# Altium footprint library Chip_kz85.PcbLib: 314 footprints (part 2 of 20)
Each footprint in its own frame and in the unit in brackets; x right, y up, seen from the top. Pads: shape width x height; smd on the part's side, far side on the other; paste and mask are expansions set on the pad; w line width, h text height; cw(c..) or ccw(c..) is an arc to the next point about the centre after c.
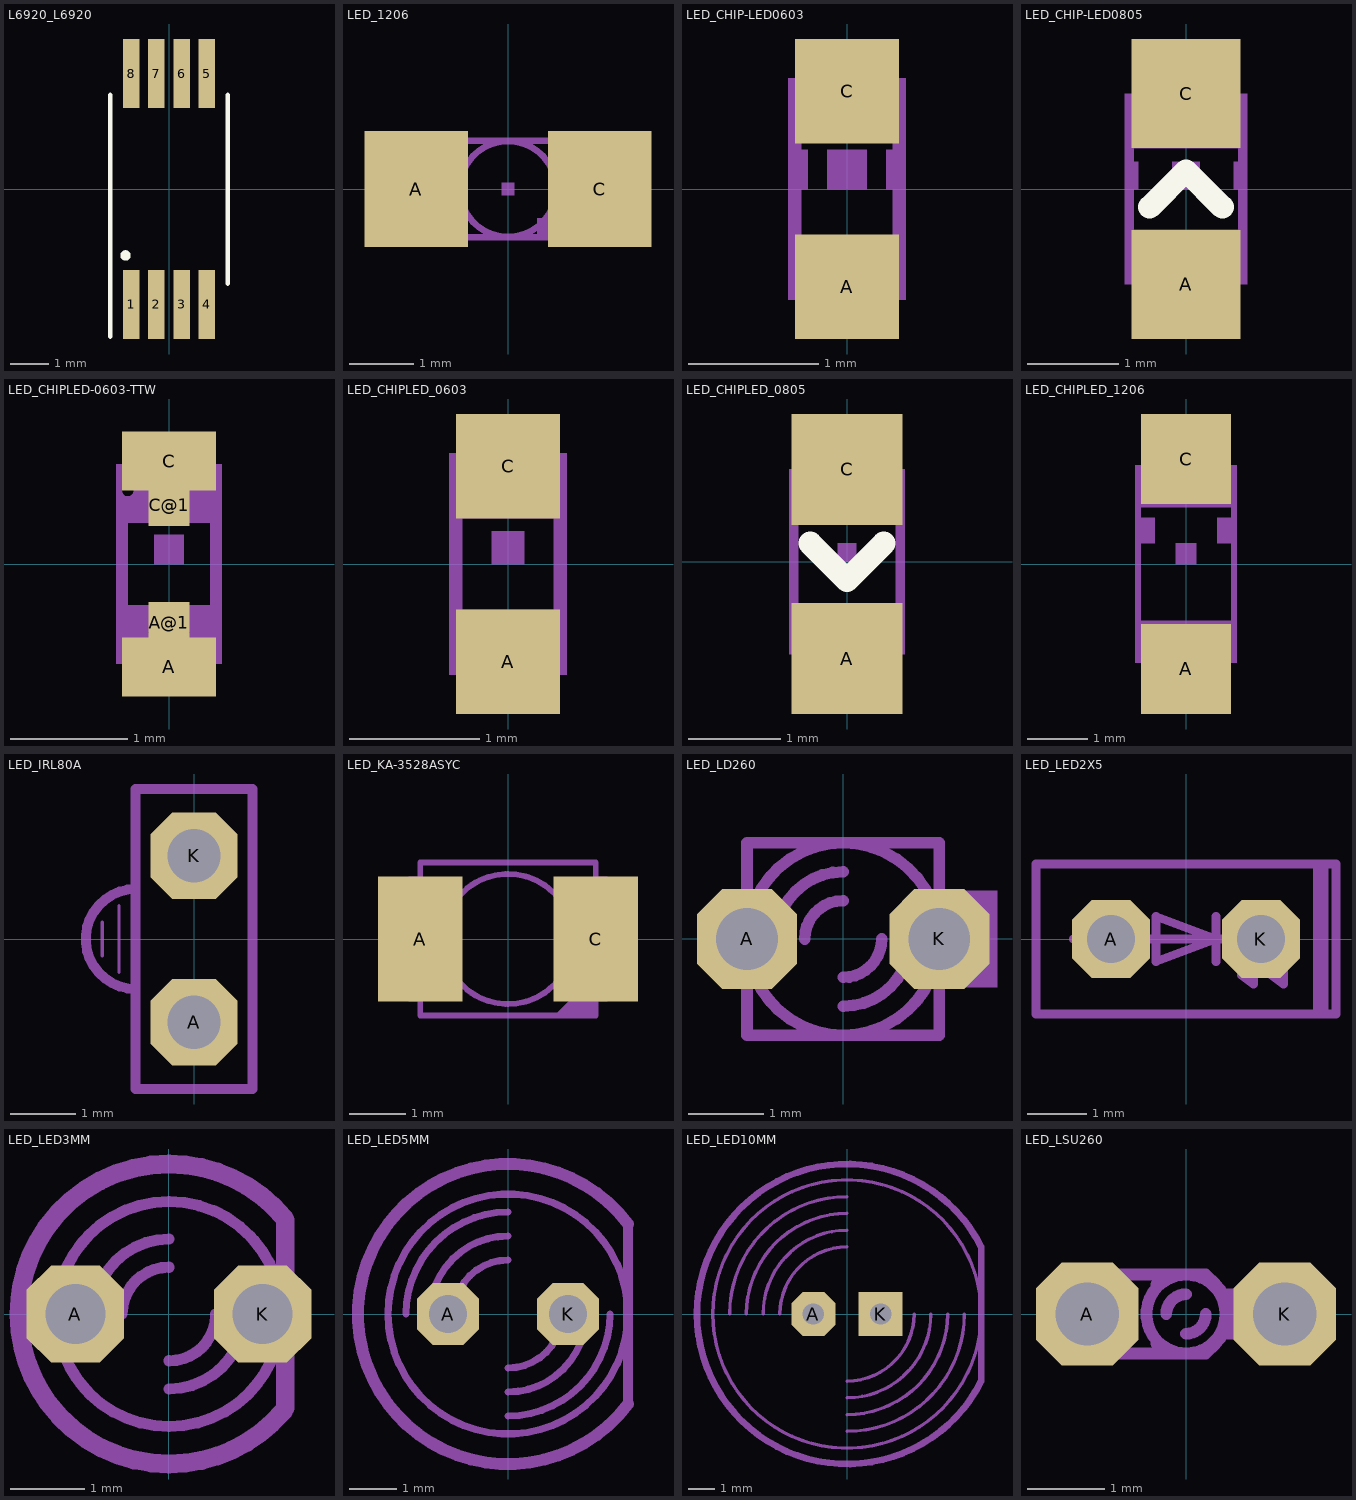
[diagram p1: the footprints below, top view; thin cyan lines are the x and y axes]

## L6920_L6920 [mil]
pads (8):
  rect 16.54x70.08 smd: 1(-38.39,-116.93) 2(-12.8,-116.93) 3(12.8,-116.93) 4(38.39,-116.93) 5(38.39,116.93) 6(12.8,116.93) 7(-12.8,116.93) 8(-38.39,116.93)
Top Overlay:
  circle w5: c-44.09,-67.32 r2.78
  lines w5: -59.55,-149.61 -59.55,95.39 ; 59.55,-95.61 59.55,95.39

## LED_1206 [mil]
pads (2):
  rect 62.99x70.98 smd: A(-55.98,0) C(55.98,0)
Mechanical 3:
  region: -35.43,21.65 -35.43,27.56 -31.5,27.56 -31.5,21.65
  region: -35.43,-27.56 -35.43,19.69 -31.5,19.69 -31.5,-27.56
  region: 31.5,21.65 31.5,27.56 35.43,27.56 35.43,21.65
  region: 31.5,-27.56 31.5,19.69 35.43,19.69 35.43,-27.56
  region: 17.72,-27.56 17.72,-17.72 31.5,-17.72 31.5,-27.56
  lines w4: -21.65,-19.69 cw(c0.01,0) -21.65,19.69 ; 21.65,-19.69 ccw(c-0.01,0) 21.65,19.69 ; -61.02,-29.53 -61.02,29.53 61.02,29.53 61.02,-29.53 -61.02,-29.53
Mechanical 7:
  region: 17.72,-27.56 17.72,-17.72 23.62,-17.72 23.62,-27.56
  region: -3.94,-3.94 -3.94,3.94 3.94,3.94 3.94,-3.94
  lines w4: -21.65,-19.69 ccw(c0,-0.01) 21.65,-19.69 ; -21.65,19.69 cw(c0,0.01) 21.65,19.69

## LED_CHIP-LED0603 [mil]
pads (2):
  rect 31.5x31.5 smd: A(0,-29.53) C(0,29.53)
Mechanical 3:
  region: -17.72,-33.46 -17.72,-17.72 17.72,-17.72 17.72,-33.46
  region: -17.72,17.72 -17.72,33.46 17.72,33.46 17.72,17.72
  lines w4: -15.75,-17.72 -15.75,17.72 ; 15.75,-17.72 15.75,17.72
Mechanical 7:
  region: -5.91,0 -5.91,11.81 5.91,11.81 5.91,0
  region: 11.81,0 11.81,11.81 17.72,11.81 17.72,0
  region: -17.72,0 -17.72,11.81 -11.81,11.81 -11.81,0

## LED_CHIP-LED0805 [mil]
pads (2):
  rect 47.24x47.24 smd: A(0,-41.34) C(0,41.34)
Top Overlay:
  lines w10: -15.75,-7.87 0,7.87 15.75,-7.87
Mechanical 3:
  region: -26.57,17.72 -26.57,41.34 26.57,41.34 26.57,17.72
  region: -26.57,-41.34 -26.57,-17.72 26.57,-17.72 26.57,-41.34
  lines w4: -24.61,-17.72 -24.61,17.72 ; 24.61,-18.7 24.61,17.72
Mechanical 7:
  region: -26.57,0 -26.57,11.81 -20.67,11.81 -20.67,0
  region: 20.67,0 20.67,11.81 26.57,11.81 26.57,0
  region: -5.91,0 -5.91,11.81 5.91,11.81 5.91,0

## LED_CHIPLED-0603-TTW [mm]
pads (4):
  rect 0.8x0.5 smd paste+0 mask+0: A(0,-0.875) C(0,0.875)
  rect 0.35x0.35 smd: A@1(0,-0.5) C@1(0,0.5)
Top Solder:
  region: -0.175,-0.675 -0.175,-0.325 0.175,-0.325 0.175,-0.675
  region: -0.4,-1.125 -0.4,-0.625 0.4,-0.625 0.4,-1.125
  region: -0.4,0.625 -0.4,1.125 0.4,1.125 0.4,0.625
  region: -0.175,0.325 -0.175,0.7 0.175,0.7 0.175,0.325
Mechanical 3:
  circle w0.051: c-0.35,0.625 r0.075
  region: 0.175,-0.65 0.175,-0.55 0.275,-0.55 0.275,-0.65
  region: -0.275,-0.65 -0.275,-0.55 -0.175,-0.55 -0.175,-0.65
  region: -0.275,-0.575 -0.275,-0.35 0.275,-0.35 0.275,-0.575
  region: 0.25,-0.85 0.25,-0.35 0.45,-0.35 0.45,-0.85
  region: -0.45,-0.85 -0.45,-0.35 -0.25,-0.35 -0.25,-0.85
  region: -0.45,0.35 -0.45,0.575 0.45,0.575 0.45,0.35
  region: 0.25,0.55 0.25,0.85 0.45,0.85 0.45,0.55
  region: -0.45,0.35 -0.45,0.725 -0.4,0.725 -0.4,0.35
  region: -0.275,0.55 -0.275,0.6 -0.225,0.6 -0.225,0.55
  region: -0.45,0.7 -0.45,0.85 -0.25,0.85 -0.25,0.7
  lines w0.051: -0.275,-0.825 cw(c0,-0.825) 0.275,-0.825
  lines w0.102: -0.4,-0.35 -0.4,0.375 ; -0.3,0.8 ccw(c0,0.826) 0.3,0.8 ; 0.4,-0.35 0.4,0.35
Mechanical 7:
  region: -0.125,0 -0.125,0.25 0.125,0.25 0.125,0

## LED_CHIPLED_0603 [mil]
pads (2):
  rect 31.5x31.5 smd: A(0,-29.53) C(0,29.53)
Mechanical 3:
  circle w2: c-13.78,24.61 r2.95
  region: 6.89,-25.59 6.89,-21.65 10.83,-21.65 10.83,-25.59
  region: -10.83,-25.59 -10.83,-21.65 -6.89,-21.65 -6.89,-25.59
  region: -10.83,-22.64 -10.83,-13.78 10.83,-13.78 10.83,-22.64
  region: 9.84,-33.46 9.84,-13.78 17.72,-13.78 17.72,-33.46
  region: -17.72,-33.46 -17.72,-13.78 -9.84,-13.78 -9.84,-33.46
  region: -17.72,13.78 -17.72,22.64 17.72,22.64 17.72,13.78
  region: 9.84,21.65 9.84,33.46 17.72,33.46 17.72,21.65
  region: -17.72,13.78 -17.72,28.54 -15.75,28.54 -15.75,13.78
  region: -10.83,21.65 -10.83,23.62 -8.86,23.62 -8.86,21.65
  region: -17.72,27.56 -17.72,33.46 -9.84,33.46 -9.84,27.56
  lines w2: -10.83,-32.48 cw(c0,-32.48) 10.83,-32.48
  lines w4: -15.75,-13.78 -15.75,14.76 ; -11.81,31.5 ccw(c0,32.53) 11.81,31.5 ; 15.75,-13.78 15.75,13.78
Mechanical 7:
  region: -4.92,0 -4.92,9.84 4.92,9.84 4.92,0

## LED_CHIPLED_0805 [mm]
pads (2):
  rect 1.2x1.2 smd: A(0,-1.05) C(0,1)
Top Overlay:
  lines w0.254: -0.4,0.2 0,-0.2 0.4,0.2
Mechanical 3:
  circle w0.102: c-0.45,0.85 r0.103
  region: 0.3,0.5 0.3,1 0.625,1 0.625,0.5
  region: -0.325,0.5 -0.325,0.75 -0.175,0.75 -0.175,0.5
  region: 0.175,0.5 0.175,0.75 0.325,0.75 0.325,0.5
  region: -0.2,0.5 -0.2,0.675 0.2,0.675 0.2,0.5
  region: 0.3,-1 0.3,-0.5 0.625,-0.5 0.625,-1
  region: -0.625,-1 -0.625,-0.5 -0.3,-0.5 -0.3,-1
  region: 0.175,-0.75 0.175,-0.5 0.325,-0.5 0.325,-0.75
  region: -0.325,-0.75 -0.325,-0.5 -0.175,-0.5 -0.175,-0.75
  region: -0.2,-0.675 -0.2,-0.5 0.2,-0.5 0.2,-0.675
  region: -0.6,0.5 -0.6,0.8 -0.3,0.8 -0.3,0.5
  region: -0.625,0.925 -0.625,1 -0.3,1 -0.3,0.925
  lines w0.102: -0.575,-0.5 -0.575,0.925 ; -0.35,-0.925 cw(c0,-0.979) 0.35,-0.925 ; -0.35,0.925 ccw(c0,0.979) 0.35,0.925 ; 0.575,-0.525 0.575,0.525
Mechanical 7:
  region: -0.1,0 -0.1,0.2 0.1,0.2 0.1,0

## LED_CHIPLED_1206 [mil]
pads (2):
  rect 59.06x59.06 smd: A(0,-68.9) C(0,68.9)
Mechanical 3:
  circle w4: c-21.65,56.1 r3.94
  region: -33.46,-64.96 -33.46,-37.4 33.46,-37.4 33.46,-64.96
  region: -33.46,37.4 -33.46,49.21 33.46,49.21 33.46,37.4
  region: 9.84,48.23 9.84,53.15 33.46,53.15 33.46,48.23
  region: 13.78,51.18 13.78,64.96 33.46,64.96 33.46,51.18
  region: -25.59,48.23 -25.59,53.15 -8.86,53.15 -8.86,48.23
  region: -17.72,48.23 -17.72,57.09 -12.8,57.09 -12.8,48.23
  region: -33.46,48.23 -33.46,61.02 -24.61,61.02 -24.61,48.23
  region: -33.46,60.04 -33.46,64.96 -13.78,64.96 -13.78,60.04
  lines w4: -31.5,-37.4 -31.5,37.4 ; -15.75,62.99 ccw(c0,64.01) 15.75,62.99 ; 31.5,-37.4 31.5,37.4
Mechanical 7:
  region: -6.89,0 -6.89,13.78 6.89,13.78 6.89,0
  region: 20.67,13.78 20.67,30.51 33.46,30.51 33.46,13.78
  region: -33.46,13.78 -33.46,30.51 -20.67,30.51 -20.67,13.78

## LED_IRL80A [mil]
pads (2):
  oct 52x52 / inner round 48.04 / far side oct 52x52 hole 32: A(0,-50) K(0,50)
Mechanical 3:
  lines w6: -35,-70 -35,-30 ; -35,30 -35,70 ; 35,-70 35,-25 ; 35,30 35,70
Mechanical 7:
  lines w2: -55,-10 -55,10 ; -45,-20 -45,20
  lines w6: -35,-70 -35,-90 35,-90 35,-70 ; -35,70 -35,90 35,90 35,70 ; 35,-25 35,30 ; -35,-30 cw(c-35,0) -35,30 -35,-30

## LED_KA-3528ASYC [mil]
pads (2):
  rect 59.06x86.61 smd: A(-61.02,0) C(61.02,0)
Mechanical 3:
  circle w4: c0,0 r45.28
  region: 61.02,-53.15 61.02,-24.61 32.48,-53.15
  region: 68.9,43.31 68.9,23.62 62.99,23.62 62.99,43.31
  region: 68.9,-23.62 68.9,-43.31 62.99,-43.31 62.99,-23.62
  region: -68.9,-43.31 -68.9,-23.62 -62.99,-23.62 -62.99,-43.31
  region: -68.9,23.62 -68.9,43.31 -62.99,43.31 -62.99,23.62
  lines w4: -61.02,-53.15 -61.02,53.15 ; 61.02,-53.15 61.02,53.15
Mechanical 7:
  region: 61.02,-53.15 61.02,-46.26 39.37,-46.26 32.48,-53.15
  lines w4: -61.02,-53.15 61.02,-53.15 ; -61.02,53.15 61.02,53.15 ; -25.59,-37.4 ccw(c0,0.25) 25.59,-37.4 ; -25.59,37.4 cw(c0,-0.25) 25.59,37.4

## LED_LD260 [mil]
pads (2):
  oct 52x52 / inner round 48.04 / far side oct 52x52 hole 32: A(-50,0) K(50,0)
Mechanical 3:
  region: 50,-25 50,25 80,25 80,-25
  lines w6: -50,-35 -50,0 ; -50,35 -50,0 ; -37.96,-32.54 cw(c0,0) -50,0 ; -37.96,32.54 ccw(c0,0) -50,0 ; -35,0 cw(c0,0) 0,35 ; -20,0 cw(c0,0) 0,20 ; 0,-35 ccw(c0,0) 35,0 ; 37.63,-32.93 ccw(c-0.01,0) 50,0 ; 38.41,32.01 cw(c0,0) 50,0 ; 50,-35 50,0 ; 50,35 50,0
Mechanical 7:
  region: 75,-25 75,25 80,25 80,-25
  lines w6: -50,-35 -50,-50 0,-50 ; -50,35 -50,50 0,50 ; -39.04,-31.24 ccw(c0,-0.01) 0,-50 ; -39.04,31.24 cw(c0,0.01) 0,50 ; 0,-20 ccw(c0,0) 20,0 ; 39.04,-31.24 cw(c0,-0.01) 0,-50 ; 39.04,31.24 ccw(c0,0.01) 0,50 ; 50,-35 50,-50 0,-50 ; 50,35 50,50 0,50

## LED_LED2X5 [mil]
pads (2):
  oct 52x52 / inner round 48.04 / far side oct 52x52 hole 32: A(-50,0) K(50,0)
Mechanical 3:
  lines w6: -75,0 20,0 ; 20,-15 20,0 ; 20,15 20,0 ; 35,-10 45,-30 ; 55,-10 65,-30 ; 70,0 20,0 ; 20,0 -20,15 -20,-15 20,0 ; 45,-30 45,-20 37,-24 45,-30 ; 65,-30 65,-20 57,-24 65,-30
Mechanical 7:
  region: 85,-50 85,50 95,50 95,-50
  lines w6: -100,-50 100,-50 100,50 -100,50 -100,-50

## LED_LED3MM [mil]
pads (2):
  oct 52x52 / inner round 48.04 / far side oct 52x52 hole 32: A(-50,0) K(50,0)
Mechanical 3:
  lines w6: -46.09,38.41 ccw(c0,-0.01) -60,0 ccw(c0,-0.01) -44.85,-39.86 ; -40,0 cw(c0,0) 0,40 ; -25,0 cw(c0,0) 0,25 ; 0,-40 ccw(c0,0) 40,0 ; 0,-25 ccw(c0,0) 25,0 ; 45.56,39.05 cw(c0,0.01) 60,0 cw(c0,0.01) 46.09,-38.41
  lines w10: -70.44,37.93 ccw(c0,0.01) -80,0 ccw(c0,0) -68.13,-41.93 ; 62,-50 62,50
Mechanical 7:
  lines w6: -48,36 cw(c0,0) 0,60 cw(c-0.01,0) 48.82,34.87 ; -47.36,-36.83 ccw(c0.01,0) 0,-60 ccw(c-0.01,0) 47.36,-36.83
  lines w10: -70.59,37.65 cw(c0,0) 0,80 cw(c0.01,0) 61.46,51.22 ; -69.46,-39.69 ccw(c0,0) 0,-80 ccw(c0,0) 61.07,-51.68

## LED_LED5MM [mil]
pads (2):
  oct 52x52 / inner round 48.04 / far side oct 52x52 hole 32: A(-50,0) K(50,0)
Mechanical 3:
  lines w6: -85,0 cw(c0,0) 0,85 ; -65,0 cw(c0,0) 0,65 ; -45,0 cw(c0,0) 0,45 ; 0,-85 ccw(c0,0) 85,0 ; 0,-65 ccw(c0,0) 65,0 ; 0,-45 ccw(c0,0) 45,0
Mechanical 7:
  circle w6: c0,0 r100
  lines w8: 100,-75 100,75
  lines w10: 100,-75 cw(c0,0) 100,75

## LED_LED10MM [mil]
pads (2):
  oct 66x66 / inner round 60.98 / far side oct 66x66 hole 32: A(-50,0)
  rect 66x66 / inner round 60.98 / far side rect 66x66 hole 32: K(50,0)
Mechanical 7:
  circle w5: c0,0 r200
  lines w5: -175,0 cw(c0,0) 0,175 ; -150,0 cw(c0,0) 0,150 ; -125,0 cw(c0,0) 0,125 ; -100,0 cw(c0,0) 0,100 ; 0,-175 ccw(c0,0) 175,0 ; 0,-150 ccw(c0,0) 150,0 ; 0,-125 ccw(c0,0) 125,0 ; 0,-100 ccw(c0,0) 100,0
  lines w10: 200,-100 cw(c0,0) 200,100 200,-100

## LED_LSU260 [mil]
pads (2):
  oct 52x52 / inner round 48.04 / far side oct 52x52 hole 32: A(-50,0) K(50,0)
Mechanical 3:
  circle w6: c0,0 r20
  region: -55,-10 -55,10 -45,10 -45,-10
  region: 20,-10 20,10 55,10 55,-10
  lines w6: 0,-20 -45,-20 -45,-10 ; 0,20 -45,20 -45,10 ; 20,-10 55,-10 55,10 20,10 ; -45,-10 -55,-10 -55,10 -45,10 ; -45,-10 -45,10
Mechanical 7:
  lines w6: -15,-15 -10,-20 10,-20 15,-15 ccw(c0,0) 15,15 10,20 -10,20 -15,15 ; -10,0 cw(c0,0) 0,10 ; 0,-10 ccw(c0,0) 10,0